# EAGLE library part OPA855 (library EagleLibrary)
Opamp High Gain Bandwidth Product: 8 GHz Low Input Voltage Noise: 0.98 nV/√Hz
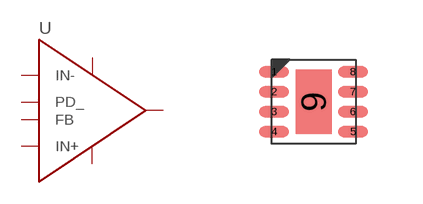
[diagram p7: symbol with the pads of OPA855; footprint OPA855]

Designator prefix U

## OPA855 (MFG: Texas Instruments; PN: OPA855)  [OPA855]
1  FB
3  IN-
4  IN+
5  VS-
6  OUT
7  VS+
8  PD_
9  VS-

## Footprint OPA855 (pad centres in mm)
8-SON (DFN), 0.50 mm pitch, 2.00 X 2.00 X 0.80 mm body, 1.60 X 0.90 mm thermal pad 8-pin SON (DFN) package with 0.50 mm pitch with body size 2.00 X 2.00 X 0.80 mm and thermal pad size 1.60 X 0.90 mm
smd 0.76 x 0.279: 1 -0.985,0.75; 2 -0.985,0.25; 3 -0.985,-0.25; 4 -0.985,-0.75; 5 0.985,-0.75; 6 0.985,-0.25; 7 0.985,0.25; 8 0.985,0.75
smd 0.9 x 1.6: 9 0,0